# Altium footprint library Smartstrap_with_MAX30205.PcbLib: 14 footprints
Each footprint in its own frame and in the unit in brackets; x right, y up, seen from the top. Pads: shape width x height; smd on the part's side, far side on the other; paste and mask are expansions set on the pad; w line width, h text height; cw(c..) or ccw(c..) is an arc to the next point about the centre after c.
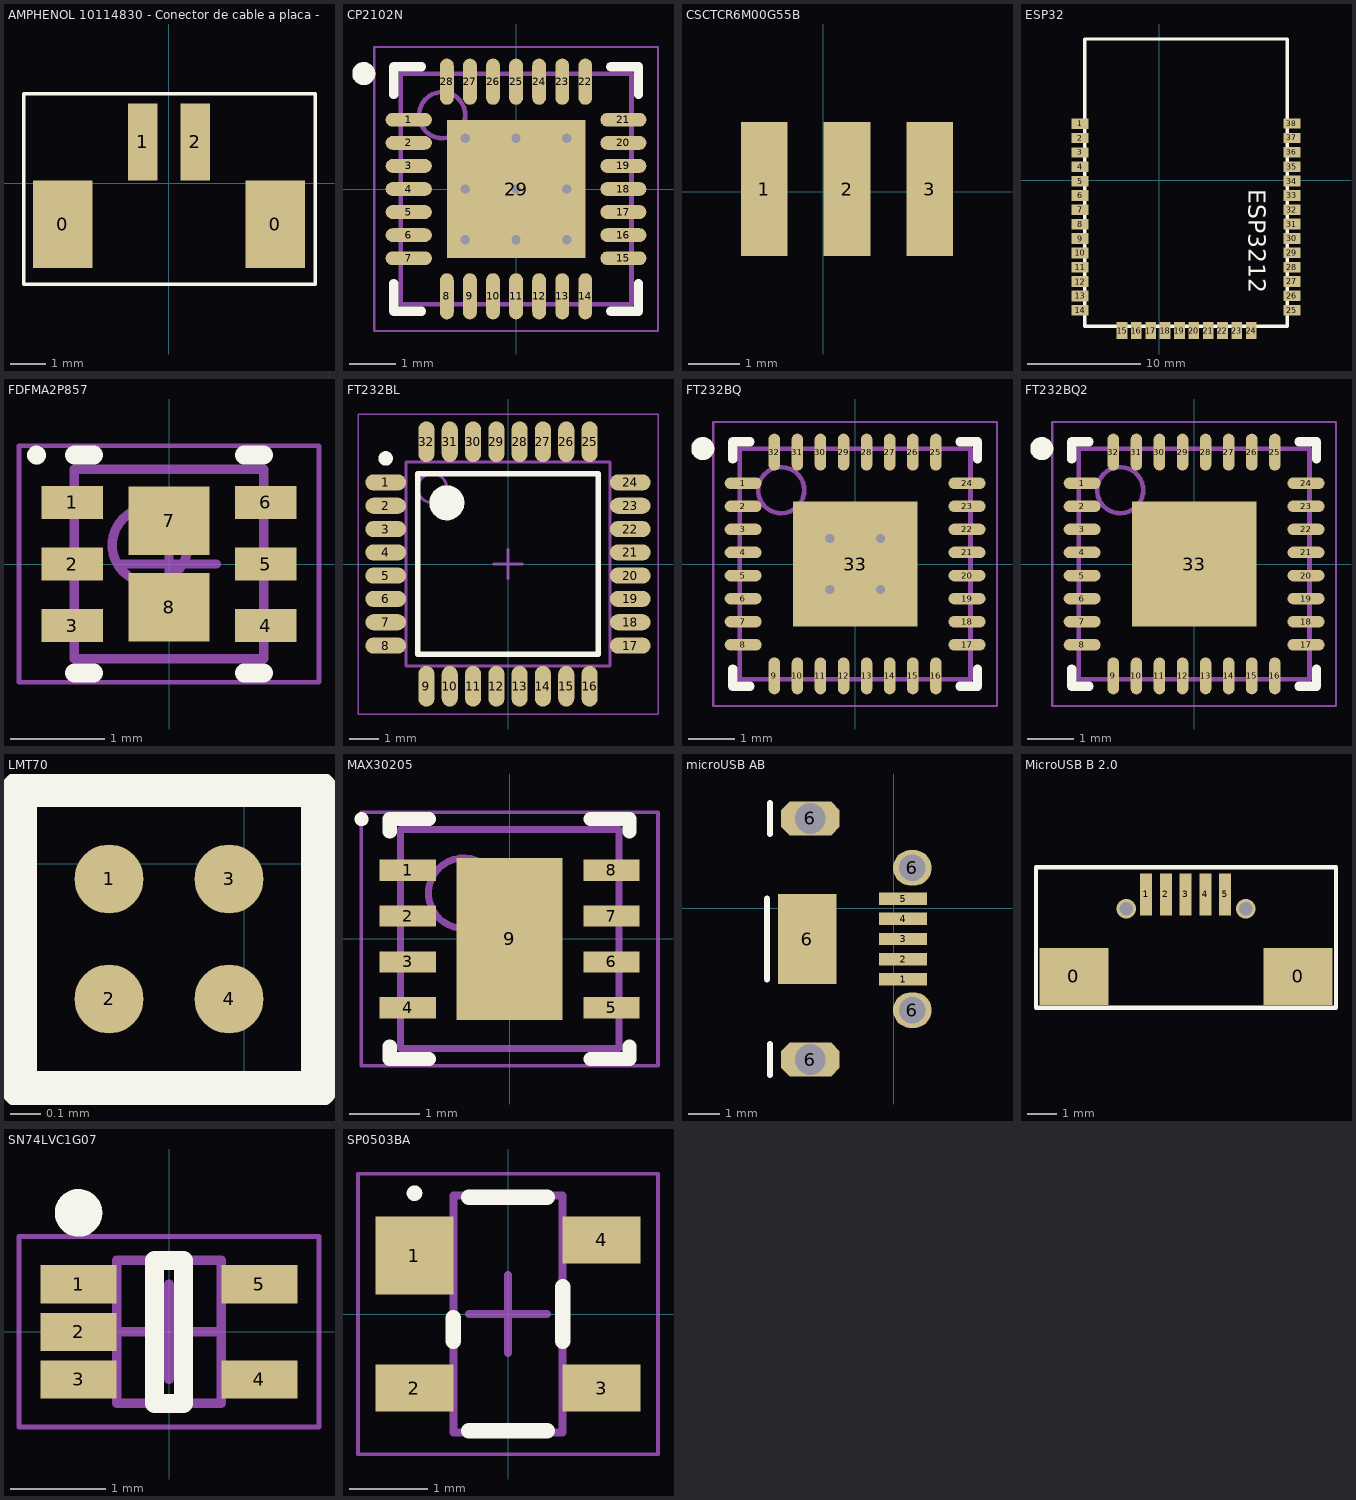
[diagram p0: the footprints below, top view; thin cyan lines are the x and y axes]

## AMPHENOL 10114830 - Conector de cable a placa - 1.25mm [mm]
pads (4):
  rect 1.7x2.5 smd: 0(-3.041,-1.18) 0(3.041,-1.18)
  rect 0.85x2.2 smd: 1(-0.748,1.18) 2(0.752,1.18)
Top Overlay:
  lines w0.1: -4.148,-2.895 4.177,-2.895 4.177,2.555 -4.148,2.555 -4.148,-2.895

## CP2102N [mm] "QFN, 28-Leads, Body 5,00x5,00mm, Pitch 0,50mm, Thermal Pad 3,25x3,25mm, IPC Medium Density"
height 0.8
pads (29):
  oval 1x0.3 smd: 1(-2.325,1.5) 2(-2.325,1) 3(-2.325,0.5) 4(-2.325,0) 5(-2.325,-0.5) 6(-2.325,-1) 7(-2.325,-1.5) 15(2.325,-1.5) 16(2.325,-1) 17(2.325,-0.5) 18(2.325,0) 19(2.325,0.5) 20(2.325,1) 21(2.325,1.5)
  oval 0.3x1 smd: 8(-1.5,-2.325) 9(-1,-2.325) 10(-0.5,-2.325) 11(0,-2.325) 12(0.5,-2.325) 13(1,-2.325) 14(1.5,-2.325) 22(1.5,2.325) 23(1,2.325) 24(0.5,2.325) 25(0,2.325) 26(-0.5,2.325) 27(-1,2.325) 28(-1.5,2.325)
  rect 3x3 smd: 29(0,0)
via 1.1,-1.1 diameter 0.5 hole 0.2
via 0,-1.1 diameter 0.5 hole 0.2
via -1.1,-1.1 diameter 0.5 hole 0.2
via 1.1,0 diameter 0.5 hole 0.2
via 0,0 diameter 0.5 hole 0.2
via -1.1,0 diameter 0.5 hole 0.2
via 1.1,1.1 diameter 0.5 hole 0.2
via 0,1.1 diameter 0.5 hole 0.2
via -1.1,1.1 diameter 0.5 hole 0.2
Top Overlay:
  circle w0.25: c-3.3,2.5 r0.125
  lines w0.2: -2.65,-2.05 -2.65,-2.65 -2.05,-2.65 ; -2.65,2.05 -2.65,2.65 -2.05,2.65 ; 2.05,-2.65 2.65,-2.65 2.65,-2.05 ; 2.05,2.65 2.65,2.65 2.65,2.05
Mechanical 13:
  circle w0.1: c-1.6,1.6 r0.5
  lines w0.1: -2.5,-2.5 2.5,-2.5 2.5,2.5 -2.5,2.5 -2.5,-2.5
Mechanical 15:
  lines w0.05: -3.075,-3.075 3.075,-3.075 3.075,3.075 -3.075,3.075 -3.075,-3.075
  lines w0.1: -0.5,0 0.5,0 ; 0,-0.5 0,0.5
3D body: height 0.8, standoff 0, extent -2.5,-2.5 2.5,2.5

## CSCTCR6M00G55B [mm]
pads (3):
  rect 0.9x2.6 smd mask+0.05: 1(-1.143,0.051) 2(0.457,0.051) 3(2.057,0.051)

## ESP32 [mm]
height 10
pads (38):
  rect 1.5x0.9 smd: 1(-7,5) 2(-7,3.73) 3(-7,2.46) 36(11.725,2.47) 37(11.725,3.74) 38(11.725,5.01)
  rect 1.5x0.95 smd: 4(-7,1.19) 5(-7,-0.08) 6(-7,-1.35) 7(-7,-2.62) 8(-7,-3.89) 9(-7,-5.16) 10(-7,-6.43) 11(-7,-7.7) 12(-7,-8.97) 13(-7,-10.24) 14(-7,-11.51) 25(11.725,-11.5) 26(11.725,-10.23) 27(11.725,-8.96) 28(11.725,-7.69) 29(11.725,-6.42) 30(11.725,-5.15) 31(11.725,-3.88) 32(11.725,-2.61) 33(11.725,-1.34) 34(11.725,-0.07) 35(11.725,1.2)
  rect 0.95x1.5 smd: 15(-3.3,-13.3) 16(-2.03,-13.3) 17(-0.76,-13.3) 18(0.51,-13.3) 19(1.78,-13.3) 20(3.05,-13.3) 21(4.32,-13.3) 22(5.59,-13.3) 23(6.86,-13.3) 24(8.13,-13.3)
Top Overlay:
  lines w0.3: 11.325,-12.91 -6.6,-12.91 -6.6,12.5 11.325,12.5 ; 11.33,-12.91 11.33,12.5
  text "ESP3212" at 7.925,-0.775 h1.52
3D body: height 2, standoff 0.2, extent -6,-12.325 8.675,5.55
3D body: height 1, standoff 0.2, extent 7.475,5.875 8.125,11.375
3D body: height 1, standoff 0.2, extent 9.25,5.875 9.9,11.375
3D body: height 1, standoff 0.2, extent 5.175,10.725 9.9,11.375
3D body: height 1, standoff 0.2, extent 5.175,7.513 5.825,11.375
3D body: height 1, standoff 0.2, extent 2.425,7.513 5.825,8.15
3D body: height 1, standoff 0.2, extent 2.425,7.513 3.075,11.375
3D body: height 1, standoff 0.2, extent -0.325,10.725 3.075,11.375
3D body: height 1, standoff 0.2, extent -0.325,7.513 0.325,11.375
3D body: height 1, standoff 0.2, extent -3.075,7.5 -2.425,11.375
3D body: height 1, standoff 0.2, extent -3.075,7.5 0.325,8.15
3D body: height 1, standoff 0.2, extent -5.825,10.725 -2.425,11.375
3D body: height 1, standoff 0.2, extent -5.825,5.875 -5.175,11.375
3D body: height 0.9, standoff 0, extent -6.625,-12.9 11.325,12.552

## FDFMA2P857 [mm] "SON, 6-Leads, Body 2,00x2,00mm, Pitch 0,65mm, Thermal Pad 1,64x0,86mm, IPC Medium Density"
height 0.8
pads (8):
  rect 0.65x0.35 smd: 1(-1.02,0.65) 2(-1.02,0) 3(-1.02,-0.65) 4(1.02,-0.65) 5(1.02,0) 6(1.02,0.65)
  rect 0.86x0.72 smd: 7(0,0.457) 8(0,-0.457)
Top Overlay:
  circle w0.1: c-1.4,1.15 r0.05
  lines w0.2: -1,-1.15 -0.795,-1.15 ; -1,1.15 -0.795,1.15 ; 0.795,-1.15 1,-1.15 ; 0.795,1.15 1,1.15
Mechanical 13:
  circle w0.1: c-0.2,0.2 r0.4
  lines w0.1: -1,-1 1,-1 1,1 -1,1 -1,-1
Mechanical 15:
  lines w0.05: -1.585,-1.25 1.585,-1.25 1.585,1.25 -1.585,1.25 -1.585,-1.25
  lines w0.1: -0.5,0 0.5,0 ; 0,-0.5 0,0.5
3D body: height 0.8, standoff 0.08, extent -1,-1 1,1

## FT232BL [mm] "TQFP, 32-Leads, Body 7,00x7,00mm, Pitch 0,80mm, IPC Medium Density"
height 1.6
pads (32):
  oval 1.4x0.55 smd: 1(-4.2,2.8) 2(-4.2,2) 3(-4.2,1.2) 4(-4.2,0.4) 5(-4.2,-0.4) 6(-4.2,-1.2) 7(-4.2,-2) 8(-4.2,-2.8) 17(4.2,-2.8) 18(4.2,-2) 19(4.2,-1.2) 20(4.2,-0.4) 21(4.2,0.4) 22(4.2,1.2) 23(4.2,2) 24(4.2,2.8)
  oval 0.55x1.4 smd: 9(-2.8,-4.2) 10(-2,-4.2) 11(-1.2,-4.2) 12(-0.4,-4.2) 13(0.4,-4.2) 14(1.2,-4.2) 15(2,-4.2) 16(2.8,-4.2) 25(2.8,4.2) 26(2,4.2) 27(1.2,4.2) 28(0.4,4.2) 29(-0.4,4.2) 30(-1.2,4.2) 31(-2,4.2) 32(-2.8,4.2)
Top Overlay:
  circle w0.25: c-4.2,3.625 r0.125
  circle w0.6: c-2.1,2.1 r0.3
  lines w0.2: -3.1,-3.1 -3.1,3.1 3.1,3.1 3.1,-3.1 -3.1,-3.1
Mechanical 13:
  circle w0.1: c-2.6,2.6 r0.5
  lines w0.1: -3.5,-3.5 -3.5,3.5 3.5,3.5 3.5,-3.5 -3.5,-3.5
Mechanical 15:
  lines w0.05: -5.15,-5.15 -5.15,5.15 5.15,5.15 5.15,-5.15 -5.15,-5.15
  lines w0.1: -0.5,0 0.5,0 ; 0,-0.5 0,0.5
3D body: height 1.6, standoff 0.25, extent -3.5,-3.5 3.5,3.5

## FT232BQ [mm] "QFN, 32-Leads, Body 5,00x5,00mm, Pitch 0,50mm, Thermal Pad 2,70x2,70mm, IPC Medium Density"
height 0.75
pads (33):
  oval 0.8x0.25 smd: 1(-2.425,1.75) 2(-2.425,1.25) 3(-2.425,0.75) 4(-2.425,0.25) 5(-2.425,-0.25) 6(-2.425,-0.75) 7(-2.425,-1.25) 8(-2.425,-1.75) 17(2.425,-1.75) 18(2.425,-1.25) 19(2.425,-0.75) 20(2.425,-0.25) 21(2.425,0.25) 22(2.425,0.75) 23(2.425,1.25) 24(2.425,1.75)
  oval 0.25x0.8 smd: 9(-1.75,-2.425) 10(-1.25,-2.425) 11(-0.75,-2.425) 12(-0.25,-2.425) 13(0.25,-2.425) 14(0.75,-2.425) 15(1.25,-2.425) 16(1.75,-2.425) 25(1.75,2.425) 26(1.25,2.425) 27(0.75,2.425) 28(0.25,2.425) 29(-0.25,2.425) 30(-0.75,2.425) 31(-1.25,2.425) 32(-1.75,2.425)
  rect 2.7x2.7 smd: 33(0,0)
via 0.55,-0.55 diameter 0.5 hole 0.2
via -0.55,-0.55 diameter 0.5 hole 0.2
via 0.55,0.55 diameter 0.5 hole 0.2
via -0.55,0.55 diameter 0.5 hole 0.2
Top Overlay:
  circle w0.25: c-3.3,2.5 r0.125
  lines w0.2: -2.65,-2.275 -2.65,-2.65 -2.275,-2.65 ; -2.65,2.275 -2.65,2.65 -2.275,2.65 ; 2.275,-2.65 2.65,-2.65 2.65,-2.275 ; 2.275,2.65 2.65,2.65 2.65,2.275
Mechanical 13:
  circle w0.1: c-1.6,1.6 r0.5
  lines w0.1: -2.5,-2.5 2.5,-2.5 2.5,2.5 -2.5,2.5 -2.5,-2.5
Mechanical 15:
  lines w0.05: -3.075,-3.075 3.075,-3.075 3.075,3.075 -3.075,3.075 -3.075,-3.075
  lines w0.1: -0.5,0 0.5,0 ; 0,-0.5 0,0.5
3D body: height 0.75, standoff 0.02, extent -2.5,-2.5 2.5,2.5

## FT232BQ2 [mm]
height 0.75
pads (33):
  oval 0.8x0.25 smd: 1(-2.425,1.75) 2(-2.425,1.25) 3(-2.425,0.75) 4(-2.425,0.25) 5(-2.425,-0.25) 6(-2.425,-0.75) 7(-2.425,-1.25) 8(-2.425,-1.75) 17(2.425,-1.75) 18(2.425,-1.25) 19(2.425,-0.75) 20(2.425,-0.25) 21(2.425,0.25) 22(2.425,0.75) 23(2.425,1.25) 24(2.425,1.75)
  oval 0.25x0.8 smd: 9(-1.75,-2.425) 10(-1.25,-2.425) 11(-0.75,-2.425) 12(-0.25,-2.425) 13(0.25,-2.425) 14(0.75,-2.425) 15(1.25,-2.425) 16(1.75,-2.425) 25(1.75,2.425) 26(1.25,2.425) 27(0.75,2.425) 28(0.25,2.425) 29(-0.25,2.425) 30(-0.75,2.425) 31(-1.25,2.425) 32(-1.75,2.425)
  rect 2.7x2.7 smd: 33(0,0)
Top Overlay:
  circle w0.25: c-3.3,2.5 r0.125
  lines w0.2: -2.65,-2.275 -2.65,-2.65 -2.275,-2.65 ; -2.65,2.275 -2.65,2.65 -2.275,2.65 ; 2.275,-2.65 2.65,-2.65 2.65,-2.275 ; 2.275,2.65 2.65,2.65 2.65,2.275
Mechanical 13:
  circle w0.1: c-1.6,1.6 r0.5
  lines w0.1: -2.5,-2.5 2.5,-2.5 2.5,2.5 -2.5,2.5 -2.5,-2.5
Mechanical 15:
  lines w0.05: -3.075,-3.075 3.075,-3.075 3.075,3.075 -3.075,3.075 -3.075,-3.075
  lines w0.1: -0.5,0 0.5,0 ; 0,-0.5 0,0.5
3D body: height 0.75, standoff 0.02, extent -2.5,-2.5 2.5,2.5

## LMT70 [mm]
pads (4):
  round 0.23 smd mask+0.05: 1(-0.45,-0.05) 2(-0.45,-0.45) 3(-0.05,-0.05) 4(-0.05,-0.45)
Top Overlay:
  lines w0.12: -0.75,-0.75 0.25,-0.75 0.25,0.25 -0.75,0.25 -0.75,-0.75
3D body: height 0.67, standoff 0.2, extent -0.75,-0.75 0.25,0.25

## MAX30205 [mm] "SON, 8-Leads, Body 3,00x3,00mm, Pitch 0,65mm, Thermal Pad 2,30x1,50mm, IPC Medium Density"
height 0.8
pads (9):
  rect 0.8x0.3 smd mask+0: 1(-1.445,0.975) 2(-1.445,0.325) 3(-1.445,-0.325) 4(-1.445,-0.975) 5(1.445,-0.975) 6(1.445,-0.325) 7(1.445,0.325) 8(1.445,0.975)
  rect 1.5x2.3 smd: 9(0,0)
Top Overlay:
  circle w0.1: c-2.1,1.7 r0.05
  lines w0.2: -1.7,-1.525 -1.7,-1.7 -1.145,-1.7 ; -1.7,1.525 -1.7,1.7 -1.145,1.7 ; 1.145,-1.7 1.7,-1.7 1.7,-1.525 ; 1.145,1.7 1.7,1.7 1.7,1.525
Mechanical 13:
  circle w0.1: c-0.65,0.65 r0.5
  lines w0.1: -1.55,-1.55 -1.55,1.55 1.55,1.55 1.55,-1.55 -1.55,-1.55
Mechanical 15:
  lines w0.05: -2.105,-1.8 -2.105,1.8 2.105,1.8 2.105,-1.8 -2.105,-1.8
  lines w0.1: -0.5,0 0.5,0 ; 0,-0.5 0,0.5
3D body: height 0.8, standoff 0, extent -1.55,-1.55 1.55,1.55

## microUSB AB [mm]
pads (10):
  rect 1.55x0.4 smd: 1(0.3,-2.3) 2(0.3,-1.65) 3(0.3,-1) 4(0.3,-0.35) 5(0.3,0.3)
  rect 1.9x2.9 smd: 6(-2.8,-1)
  oct 1.9x1.1 hole 1: 6(-2.7,-4.9) 6(-2.7,2.9)
  oval 1.25x1.15 hole 0.85: 6(0.6,-3.3) 6(0.6,1.3)
Top Overlay:
  lines w0.2: -4.1,-2.3 -4.1,0.3 ; -4,-5.4 -4,-4.4 ; -4,2.4 -4,3.4
3D body "User Library-MicroAB.STEP": height 2.74, standoff -0.26, extent -5.46,-5.39 0.14,3.41

## MicroUSB B 2.0 [mm]
pads (7):
  rect 2.3x1.9 smd: 0(-98.933,-99.136) 0(-91.44,-99.136)
  rect 0.4x1.4 smd: 1(-96.52,-96.393) 2(-95.86,-96.393) 3(-95.199,-96.393) 4(-94.539,-96.393) 5(-93.878,-96.393)
via -97.18,-96.876 diameter 0.65 hole 0.45
via -93.193,-96.876 diameter 0.65 hole 0.45
Top Overlay:
  lines w0.15: -100.203,-100.178 -100.203,-95.479 -90.17,-95.479 -90.17,-100.178 -100.203,-100.178
3D body "User Library-MicroAB.STEP": height 2.89, standoff -0.11, extent -99.599,-101.993 -90.799,-96.393

## SN74LVC1G07 [mm] "SOT23, 5-Leads, Body 1,60x1,85mm, Pitch 0,50mm, IPC Medium Density"
height 0.6
pads (5):
  rect 0.8x0.4 smd: 1(-0.95,0.5) 2(-0.95,0) 3(-0.95,-0.5) 4(0.95,-0.5) 5(0.95,0.5)
Top Overlay:
  circle w0.25: c-0.95,1.25 r0.125
  lines w0.2: -0.15,-0.75 -0.15,0.75 0.15,0.75 0.15,-0.75 -0.15,-0.75
Mechanical 13:
  lines w0.1: -0.55,-0.75 0.55,-0.75 0.55,0.75 -0.55,0.75 -0.55,-0.75
Mechanical 15:
  lines w0.05: -1.575,-1 1.575,-1 1.575,1 -1.575,1 -1.575,-1
  lines w0.1: -0.5,0 0.5,0 ; 0,-0.5 0,0.5
3D body: height 0.6, standoff 0.18, extent -0.55,-0.75 0.55,0.75

## SP0503BA [mm] "SOT143, 4-Leads, Body 2,92x2,37mm, Pitch 1,90mm, IPC Medium Density"
height 1.22
pads (4):
  rect 1x1 smd: 1(-1.2,0.75)
  rect 1x0.6 smd: 2(-1.2,-0.95) 3(1.2,-0.95) 4(1.2,0.95)
Top Overlay:
  circle w0.1: c-1.2,1.55 r0.05
  lines w0.2: -0.7,-0.35 -0.7,-0.05 ; -0.5,-1.5 0.5,-1.5 ; -0.5,1.5 0.5,1.5 ; 0.7,-0.35 0.7,0.35
Mechanical 13:
  lines w0.1: -0.7,-1.52 0.7,-1.52 0.7,1.52 -0.7,1.52 -0.7,-1.52
Mechanical 15:
  lines w0.05: -1.925,-1.8 1.925,-1.8 1.925,1.8 -1.925,1.8 -1.925,-1.8
  lines w0.1: -0.5,0 0.5,0 ; 0,-0.5 0,0.5
3D body: height 1.22, standoff 0.15, extent -0.7,-1.52 0.7,1.52